# EAGLE library part TUSB2036 (library usbxlater)
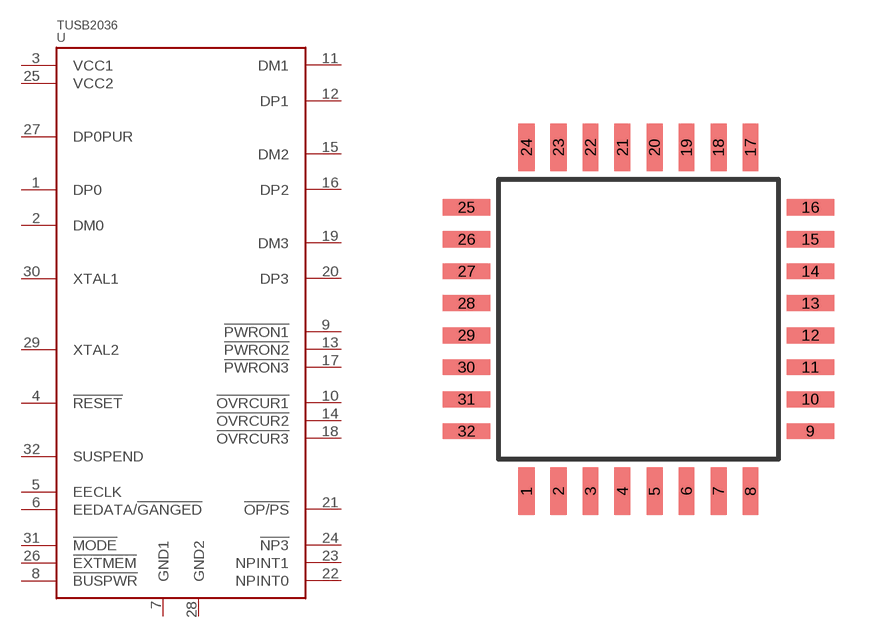
[diagram p0: symbol with the pads of LQFP32; footprint LQFP32]

Designator prefix U

## TUSB2036-LQFP32  [LQFP32]
1  DP0
2  DM0
3  VCC1
4  !RESET  in
5  EECLK
6  EEDATA/!GANGED
7  GND1
8  !BUSPWR  in
9  !PWRON1  out
10  !OVRCUR1  in
11  DM1
12  DP1
13  !PWRON2  out
14  !OVRCUR2  in
15  DM2
16  DP2
17  !PWRON3  out
18  !OVRCUR3  in
19  DM3
20  DP3
21  !OP/PS  in
22  NPINT0
23  NPINT1
24  !NP3
25  VCC2
26  !EXTMEM  in
27  DP0PUR  out
28  GND2
29  XTAL2
30  XTAL1
31  !MODE  in
32  SUSPEND  out

## Footprint LQFP32 (pad centres in mm)
LQFP-32 package 7x7 mm case, 0.8 mm lead pitch
smd 0.4 x 1.2: 1 -2.8,-4.3; 2 -2,-4.3; 3 -1.2,-4.3; 4 -0.4,-4.3; 5 0.4,-4.3; 6 1.2,-4.3; 7 2,-4.3; 8 2.8,-4.3; 17 2.8,4.3; 18 2,4.3; 19 1.2,4.3; 20 0.4,4.3; 21 -0.4,4.3; 22 -1.2,4.3; 23 -2,4.3; 24 -2.8,4.3
smd 1.2 x 0.4: 9 4.3,-2.8; 10 4.3,-2; 11 4.3,-1.2; 12 4.3,-0.4; 13 4.3,0.4; 14 4.3,1.2; 15 4.3,2; 16 4.3,2.8; 25 -4.3,2.8; 26 -4.3,2; 27 -4.3,1.2; 28 -4.3,0.4; 29 -4.3,-0.4; 30 -4.3,-1.2; 31 -4.3,-2; 32 -4.3,-2.8